# Altium schematic symbol library CAP 0.22uF 35V.Schlib: 1 symbol
Pins are listed as number, name and electrical type; pins without a type are passive.

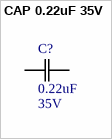
[diagram p0: symbol CAP 0.22uF 35V]

## CAP 0.22uF 35V
designator C?, comment Rating: 35V  (hidden comment: 0.22uF)
CAP CER 0.22UF 35V X7R 0603/0805; Tolerance: 10%; Package: 0603/0805; Temperature Coefficient: X7R; Operating Temperature: -55°C ~ 125°C; Value: 0.22uF
footprint 0603
footprint 0805
pins: 1 C1, 2 C2